# EAGLE library part 74*81 (library dec-con)
16 Memory, X & Y Row/Column Selects
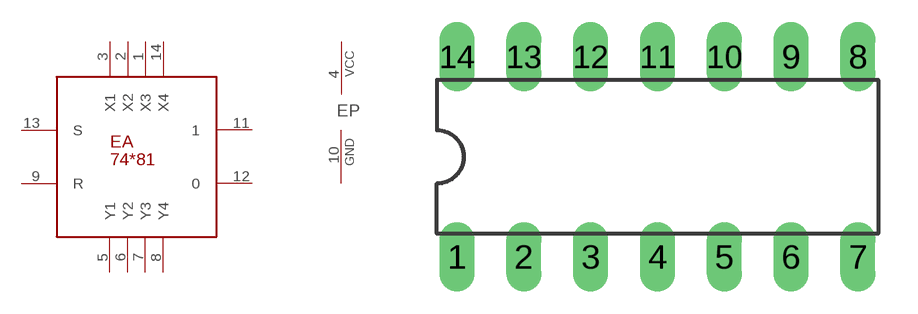
[diagram p95: symbol with the pads of DIL14; footprint DIL14]

Designator prefix E; gates A=7481 P=PWRN

## 7481  [DIL14]
1  A:X3  in
2  A:X2  in
3  A:X1  in
4  P:VCC  pwr
5  A:Y1  in
6  A:Y2  in
7  A:Y3  in
8  A:Y4  in
9  A:R  in
10  P:GND  pwr
11  A:1  out
12  A:0  out
13  A:S  in
14  A:X4  in

## Footprint DIL14 (pad centres in mm)
Dual In Line Package
drill 0.813 long: 1 -7.62,-3.81; 2 -5.08,-3.81; 3 -2.54,-3.81; 4 0,-3.81; 5 2.54,-3.81; 6 5.08,-3.81; 7 7.62,-3.81; 8 7.62,3.81; 9 5.08,3.81; 10 2.54,3.81; 11 0,3.81; 12 -2.54,3.81; 13 -5.08,3.81; 14 -7.62,3.81